# Altium footprint library PCB - MISC - ICM-42688-P.PcbLib: 1 footprints
Each footprint in its own frame and in the unit in brackets; x right, y up, seen from the top. Pads: shape width x height; smd on the part's side, far side on the other; paste and mask are expansions set on the pad; w line width, h text height; cw(c..) or ccw(c..) is an arc to the next point about the centre after c.
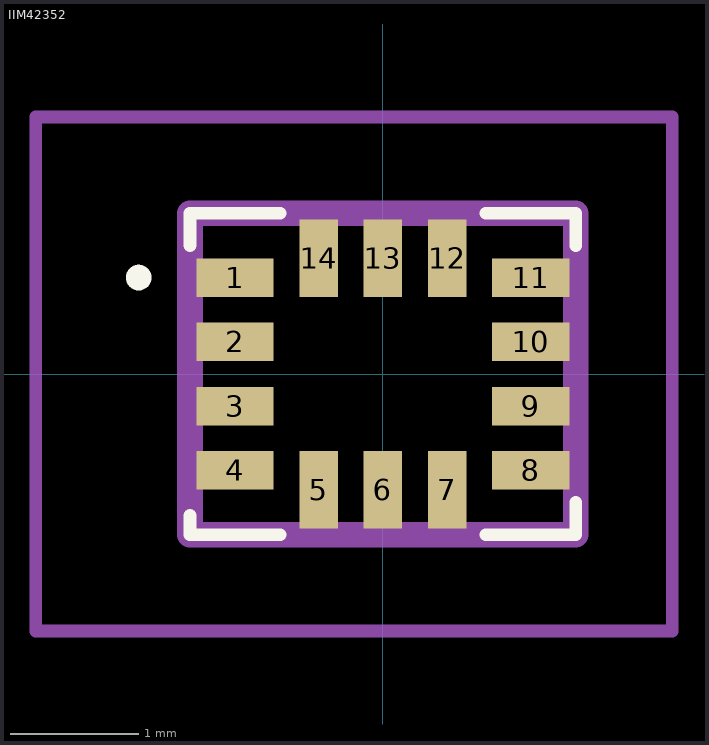
[diagram p0: the footprint, top view; thin cyan lines are the x and y axes]

## IIM42352 [mm]
pads (14):
  rect 0.6x0.3 smd: 1(-1.15,0.75) 2(-1.15,0.25) 3(-1.15,-0.25) 4(-1.15,-0.75) 8(1.15,-0.75) 9(1.15,-0.25) 10(1.15,0.25) 11(1.15,0.75)
  rect 0.3x0.6 smd: 5(-0.5,-0.9) 6(0,-0.9) 7(0.5,-0.9) 12(0.5,0.9) 13(0,0.9) 14(-0.5,0.9)
Top Overlay:
  lines w0.1: -1.5,-1.1 -1.5,-1.25 -0.8,-1.25 ; -1.5,1 -1.5,1.25 -0.8,1.25 ; 0.8,-1.25 1.5,-1.25 1.5,-1 ; 0.8,1.25 1.5,1.25 1.5,1 ; -1.9,0.7 cw(c-1.9,0.75) -1.9,0.8 cw(c-1.9,0.75) -1.9,0.7
Top Value (Mech13):
  lines w0.2: -1.5,-1.25 1.5,-1.25 1.5,1.25 -1.5,1.25 -1.5,-1.25
Mechanical 15:
  lines w0.1: -2.7,-2 2.25,-2 2.25,2 -2.7,2 -2.7,-2
3D body "ICM-42688-P.stp": height 0.9, standoff -0.01, extent -1.5,-1.25 1.5,1.25